# EAGLE library part TDA7386 (library Audio-Power-amplifier)
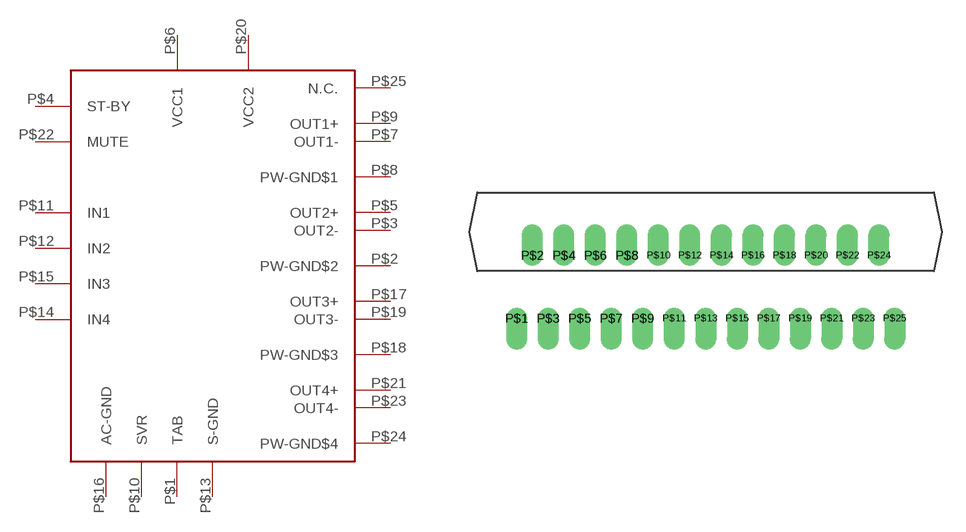
[diagram p16: symbol with the pads of FLEXIWATT25; footprint FLEXIWATT25]

Designator prefix -

## TDA7386  [FLEXIWATT25]
P$1  TAB
P$2  PW-GND$2
P$3  OUT2-
P$4  ST-BY
P$5  OUT2+
P$6  VCC1
P$7  OUT1-
P$8  PW-GND$1
P$9  OUT1+
P$10  SVR
P$11  IN1
P$12  IN2
P$13  S-GND
P$14  IN4
P$15  IN3
P$16  AC-GND
P$17  OUT3+
P$18  PW-GND$3
P$19  OUT3-
P$20  VCC2
P$21  OUT4+
P$22  MUTE
P$23  OUT4-
P$24  PW-GND$4
P$25  N.C.

## Footprint FLEXIWATT25 (pad centres in mm)
drill 0.813 offset: P$1 -12,0; P$2 -11,4; P$3 -10,0; P$4 -9,4; P$5 -8,0; P$6 -7,4; P$7 -6,0; P$8 -5,4; P$9 -4,0; P$10 -3,4; P$11 -2,0; P$12 -1,4; P$13 0,0; P$14 1,4; P$15 2,0; P$16 3,4; P$17 4,0; P$18 5,4; P$19 6,0; P$20 7,4; P$21 8,0; P$22 9,4; P$23 10,0; P$24 11,4; P$25 12,0